# Altium schematic symbol library DA14580.SCHLIB: 18 symbols
Pins are listed as number, name and electrical type; pins without a type are passive.

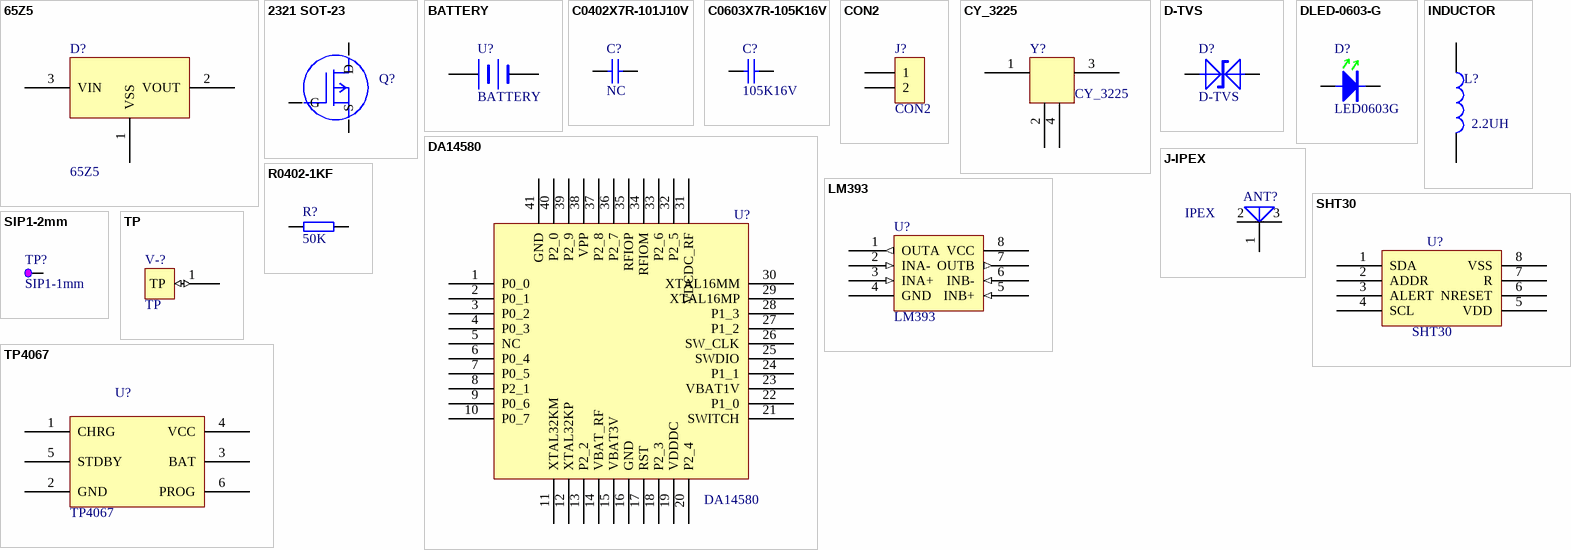
[diagram p0: symbols 65Z5 to TP4067]

## 65Z5
designator D?
pins: 1 VSS, 2 VOUT, 3 VIN

## 2321 SOT-23
designator Q?, comment AO3401 SOT-23  (value not drawn)
MOS管; 物料代码: 2.01.07.009
footprint SOT23-AO3401
pins: D, G, S

## BATTERY
designator U?
footprint BAT 4mm
pins: 1 +, 2 -

## C0402X7R-101J10V
designator C?, comment NC
贴片电容-陶瓷; 规格型号: 100pF±5%_10V_X7R_C0402; 生产商: 风华 三星; 供应商: *; 备注: *
footprint C0402
pins: 1, 2

## C0603X7R-105K16V
designator C?, comment 105K16V
贴片电容-陶瓷; 规格型号: 1uF±10%_16V_X7R_C0603; 生产商: 风华 三星; 供应商: *; 备注: *
footprint C0603
pins: 1, 2

## CON2
designator J?
Connector
footprint J-SH1.0-T-1-LT-2A
pins: 1, 2

## CY_3225
designator Y?
footprint CY_3225
pins: 1 (power), 2 (power), 3 (power), 4 (power)

## D-TVS
designator D?
footprint 0603C
pins: 1, 2

## DA14580
designator U?
bluetooth
footprint QFN40P500*500_HS-41N (QFN, 44-Leads, Body 5.00x5.00mm, Pitch 0.40mm, Thermal Pad 2.45x2.45mm, IPC Medium Density)
pins: 1 P0_0, 2 P0_1, 3 P0_2, 4 P0_3, 5 NC, 6 P0_4, 7 P0_5, 8 P2_1, 9 P0_6, 10 P0_7, 11 XTAL32KM, 12 XTAL32KP, 13 P2_2, 14 VBAT_RF, 15 VBAT3V, 16 GND, 17 RST, 18 P2_3, 19 VDDDC, 20 P2_4, 21 SWITCH, 22 P1_0, 23 VBAT1V, 24 P1_1, 25 SWDIO, 26 SW_CLK, 27 P1_2, 28 P1_3, 29 XTAL16MP, 30 XTAL16MM, 31 VDCDC_RF, 32 P2_5, 33 P2_6, 34 RFIOM, 35 RFIOP, 36 P2_7, 37 P2_8, 38 VPP, 39 P2_9, 40 P2_0, 41 GND

## DLED-0603-G
designator D?, comment LED0603G
贴片二极管-LED; 规格型号: 0603-GREEN; 货品编码: 无样品无编码; 生产商: *; 供应商: *; 备注: *
footprint D-LED0603G
footprint HS_0603D
pins: 1, 2

## INDUCTOR
designator L?, comment 2.2UH
footprint 0805
pins: 1, 2

## J-IPEX
designator ANT?, comment IPEX
footprint IFA
pins: 1 W, 2, 3

## LM393
designator U?
footprint SO-8S
pins: 1 OUTA (out), 2 INA- (in), 3 INA+ (in), 4 GND (power), 5 INB+ (in), 6 INB- (in), 7 OUTB (out), 8 VCC (power)

## R0402-1KF
designator R?, comment 50K
贴片电阻-通用; 生产商: 厚声 国巨; 规格型号: 1K±1%_1/10W_±200ppm_R0402; 备注: *; 供应商: *
footprint R0402
pins: 1, 2

## SHT30
designator U?
footprint SHT30 DL7DV9
pins: 1 SDA, 2 ADDR, 3 ALERT, 4 SCL, 5 VDD, 6 NRESET, 7 R, 8 VSS

## SIP1-2mm
designator TP?, comment SIP1-1mm
footprint SIP - 1MM
footprint TESTPAD
pins: 1

## TP
designator V-?
footprint SIP-2MM
pins: 1 TP (io)

## TP4067
designator U?
footprint SOT23-6
pins: 1 CHRG, 2 GND, 3 BAT, 4 VCC, 5 STDBY, 6 PROG